# EAGLE library part IC-2803 (library chuong)
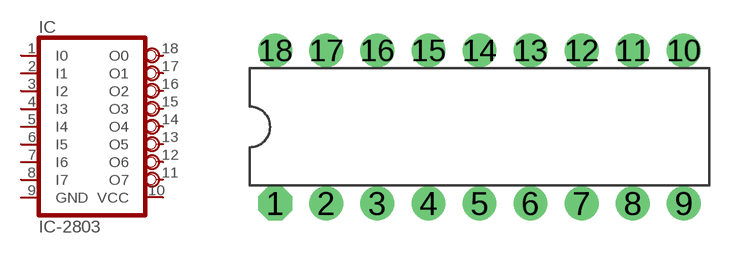
[diagram p1: symbol with the pads of DIL-18; footprint DIL-18]

Designator prefix IC

## IC-2803  [DIL-18]
1  I0  in
2  I1  in
3  I2  in
4  I3  in
5  I4  in
6  I5  in
7  I6  in
8  I7  in
9  GND  in
10  VCC  in
11  O7  out
12  O6  out
13  O5  out
14  O4  out
15  O3  out
16  O2  out
17  O1  out
18  O0  out

## Footprint DIL-18 (pad centres in mm)
drill 0.61 pad 1.676 octagon: 1 -10.16,-3.81
drill 0.61 pad 1.676 round: 2 -7.62,-3.81; 3 -5.08,-3.81; 4 -2.54,-3.81; 5 0,-3.81; 6 2.54,-3.81; 7 5.08,-3.81; 8 7.62,-3.81; 9 10.16,-3.81; 10 10.16,3.81; 11 7.62,3.81; 12 5.08,3.81; 13 2.54,3.81; 14 0,3.81; 15 -2.54,3.81; 16 -5.08,3.81; 17 -7.62,3.81; 18 -10.16,3.81